# Altium footprint library MLACH0_9.PCBLIB: 97 footprints (part 3 of 7)
Each footprint in its own frame and in the unit in brackets; x right, y up, seen from the top. Pads: shape width x height; smd on the part's side, far side on the other; paste and mask are expansions set on the pad; w line width, h text height; cw(c..) or ccw(c..) is an arc to the next point about the centre after c.
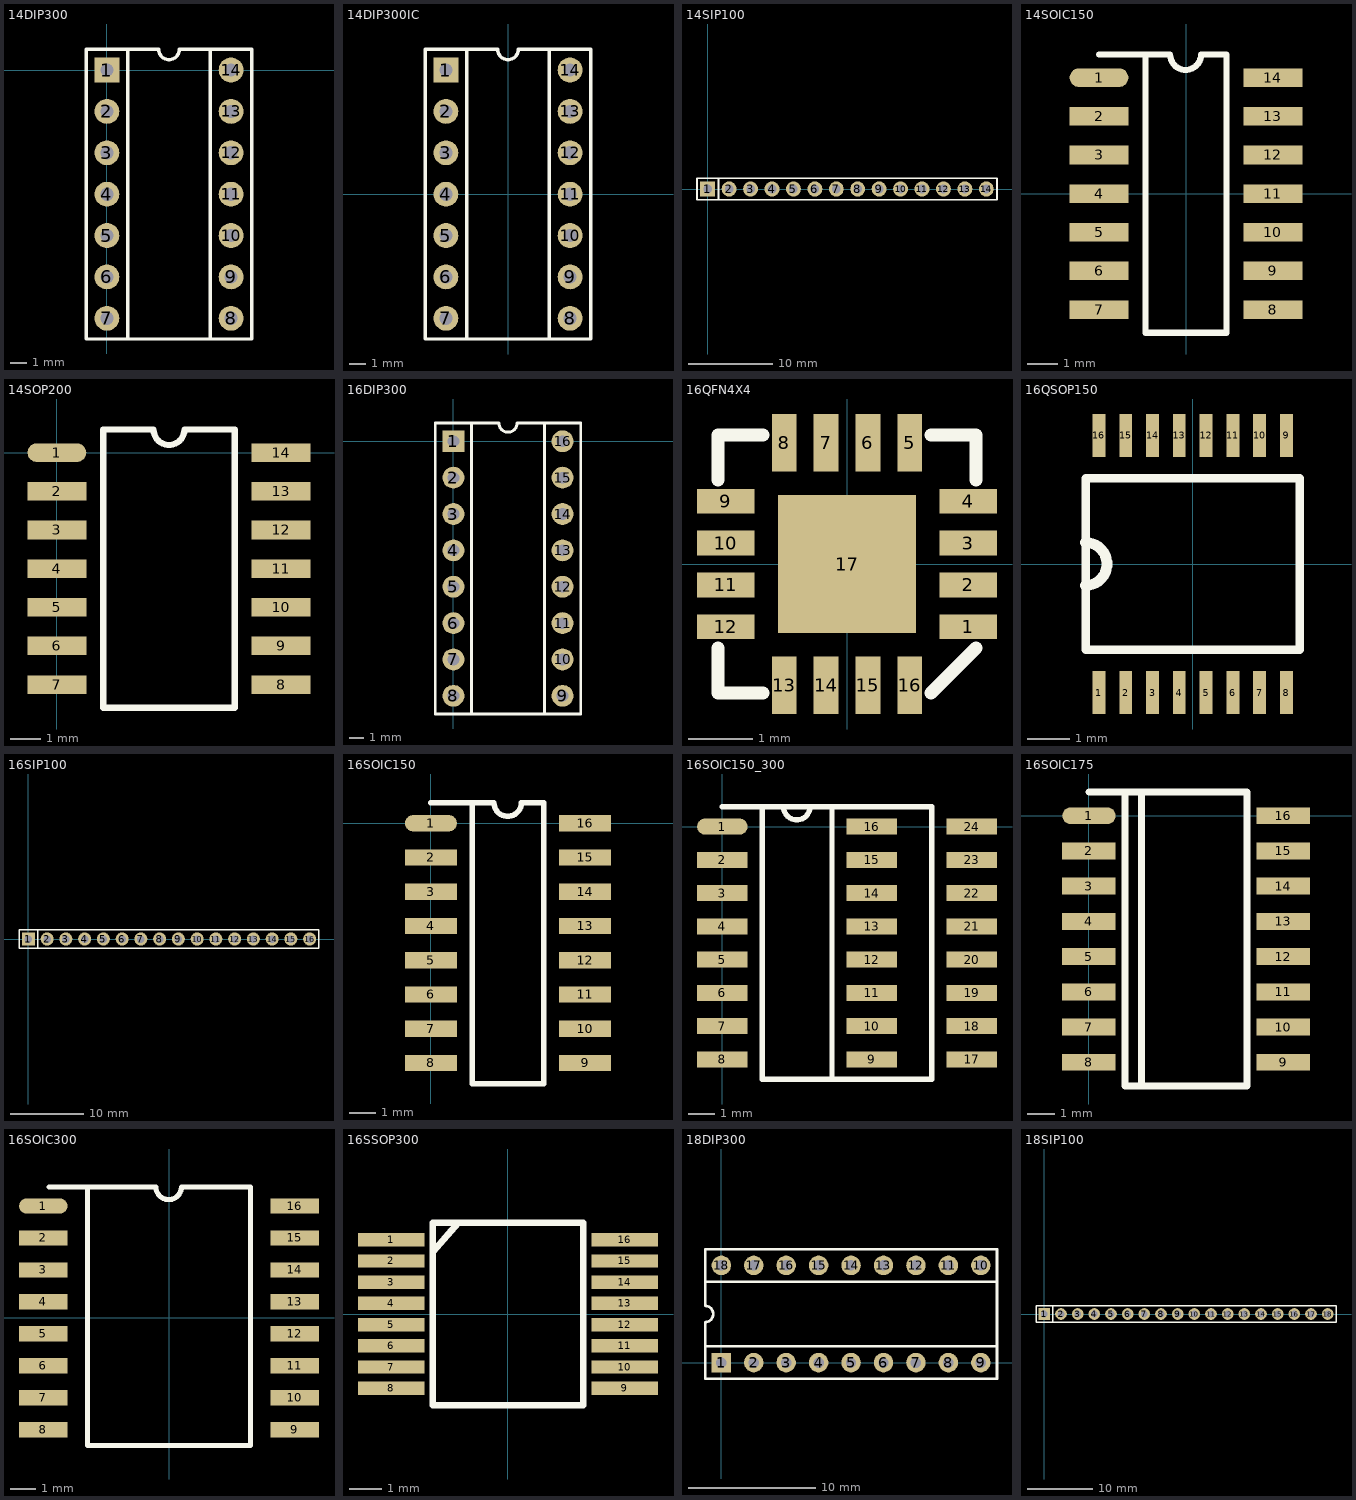
[diagram p2: the footprints below, top view; thin cyan lines are the x and y axes]

## 14DIP300 [mil]
pads (14):
  rect 60x60 hole 32: 1(0,0)
  round 60 hole 32: 2(0,-100) 3(0,-200) 4(0,-300) 5(0,-400) 6(0,-500) 7(0,-600) 8(300,-600) 9(300,-500) 10(300,-400) 11(300,-300) 12(300,-200) 13(300,-100) 14(300,0)
TopOverlay:
  lines w8: 50,-650 250,-650 ; 50,-650 50,50 ; 50,-650 -50,-650 -50,50 50,50 ; 50,50 125,50 ccw(c150,50) 175,50 250,50 ; 250,-650 250,50 ; 250,-650 350,-650 350,50 250,50
3D body: height 151.57, standoff -130.31, extent 0,-677.17 300,82.68

## 14DIP300IC [mil]
pads (14):
  rect 60x60 hole 32: 1(-150,300)
  round 60 hole 32: 2(-150,200) 3(-150,100) 4(-150,0) 5(-150,-100) 6(-150,-200) 7(-150,-300) 8(150,-300) 9(150,-200) 10(150,-100) 11(150,0) 12(150,100) 13(150,200) 14(150,300)
TopOverlay:
  lines w8: -100,-350 100,-350 ; -100,-350 -100,350 ; -100,-350 -200,-350 -200,350 -100,350 ; -100,350 -25,350 ccw(c0,350) 25,350 100,350 ; 100,-350 100,350 ; 100,-350 200,-350 200,350 100,350
3D body: height 314.96, standoff -110.24, extent -199.61,-381.89 199.61,377.95

## 14SIP100 [mil]
pads (14):
  rect 70x70 hole 40: 1(0,0)
  round 70 hole 40: 2(100,0) 3(200,0) 4(300,0) 5(400,0) 6(500,0) 7(600,0) 8(700,0) 9(800,0) 10(900,0) 11(1000,0) 12(1100,0) 13(1200,0) 14(1300,0)
TopOverlay:
  lines w8: 50,-50 50,50 ; -50,-50 1350,-50 1350,50 -50,50 -50,-50

## 14SOIC150 [mil]
pads (14):
  oval 76x24 smd: 1(-112.5,150)
  rect 76x24 smd: 2(-112.5,100) 3(-112.5,50) 4(-112.5,0) 5(-112.5,-50) 6(-112.5,-100) 7(-112.5,-150) 8(112.5,-150) 9(112.5,-100) 10(112.5,-50) 11(112.5,0) 12(112.5,50) 13(112.5,100) 14(112.5,150)
TopOverlay:
  lines w8: -112.5,180 -20.5,180 ccw(c-0.5,180) 19.5,180 52.5,180 52.5,-180 -52.5,-180 -52.5,180
3D body: height 66.93, standoff 0, extent -78.74,-172.83 78.74,173.43
3D body: height 31.5, standoff 0, extent -122.05,141.93 -78.74,157.68
3D body: height 31.5, standoff 0, extent -122.05,91.93 -78.74,107.68
3D body: height 31.5, standoff 0, extent -122.05,41.93 -78.74,57.68
3D body: height 31.5, standoff 0, extent -122.05,-8.07 -78.74,7.68
3D body: height 31.5, standoff 0, extent 78.74,-8.07 122.05,7.68
3D body: height 31.5, standoff 0, extent 78.74,41.93 122.05,57.68
3D body: height 31.5, standoff 0, extent 78.74,91.93 122.05,107.68
3D body: height 31.5, standoff 0, extent 78.74,141.93 122.05,157.68
3D body: height 31.5, standoff 0, extent 78.74,-58.07 122.05,-42.32
3D body: height 31.5, standoff 0, extent 78.74,-108.07 122.05,-92.32
3D body: height 31.5, standoff 0, extent 78.74,-158.07 122.05,-142.32
3D body: height 31.5, standoff 0, extent -122.05,-158.07 -78.74,-142.32
3D body: height 31.5, standoff 0, extent -122.05,-108.07 -78.74,-92.32
3D body: height 31.5, standoff 0, extent -122.05,-58.07 -78.74,-42.32

## 14SOP200 [mil]
pads (14):
  oval 76x24 smd: 1(0,0)
  rect 76x24 smd: 2(0,-50) 3(0,-100) 4(0,-150) 5(0,-200) 6(0,-250) 7(0,-300) 8(290,-300) 9(290,-250) 10(290,-200) 11(290,-150) 12(290,-100) 13(290,-50) 14(290,0)
TopOverlay:
  lines w8: 60,-330 60,30 125,30 ccw(c145,30) 165,30 230,30 230,-330 60,-330

## 16DIP300 [mil]
pads (16):
  rect 60x60 hole 32: 1(0,0)
  round 60 hole 32: 2(0,-100) 3(0,-200) 4(0,-300) 5(0,-400) 6(0,-500) 7(0,-600) 8(0,-700) 9(300,-700) 10(300,-600) 11(300,-500) 12(300,-400) 13(300,-300) 14(300,-200) 15(300,-100) 16(300,0)
TopOverlay:
  lines w8: 50,-750 250,-750 ; 50,-750 50,50 ; 50,-750 -50,-750 -50,50 50,50 ; 50,50 125,50 ccw(c150,50) 175,50 250,50 ; 250,-750 250,50 ; 250,-750 350,-750 350,50 250,50

## 16QFN4X4 [mil]
pads (17):
  rect 35x15 smd: 1(74,-38.39) 2(74,-12.79) 3(74,12.79) 4(74,38.39) 9(-74,38.39) 10(-74,12.79) 11(-74,-12.79) 12(-74,-38.39)
  rect 15x35 smd: 5(38.39,74) 6(12.79,74) 7(-12.79,74) 8(-38.39,74) 13(-38.39,-74) 14(-12.79,-74) 15(12.79,-74) 16(38.39,-74)
  rect 84x84 smd: 17(0,0)
TopOverlay:
  lines w8: -78.74,-51.18 -78.74,-78.74 -51.18,-78.74 ; -78.74,51.18 -78.74,78.74 -51.18,78.74 ; 51.18,-78.74 78.74,-51.18 ; 51.18,78.74 78.74,78.74 78.74,51.18

## 16QSOP150 [mil]
pads (16):
  rect 12x40 smd: 1(-87.5,-120) 2(-62.5,-120) 3(-37.5,-120) 4(-12.5,-120) 5(12.5,-120) 6(37.5,-120) 7(62.5,-120) 8(87.5,-120) 9(87.5,120) 10(62.5,120) 11(37.5,120) 12(12.5,120) 13(-12.5,120) 14(-37.5,120) 15(-62.5,120) 16(-87.5,120)
TopOverlay:
  lines w8: -100,-80 -100,80 100,80 100,-80 -100,-80
  lines w10: -100,-20 ccw(c-100,0) -100,20

## 16SIP100 [mil]
pads (16):
  rect 70x70 hole 40: 1(0,0)
  round 70 hole 40: 2(100,0) 3(200,0) 4(300,0) 5(400,0) 6(500,0) 7(600,0) 8(700,0) 9(800,0) 10(900,0) 11(1000,0) 12(1100,0) 13(1200,0) 14(1300,0) 15(1400,0) 16(1500,0)
TopOverlay:
  lines w8: 50,-50 50,50 ; -50,-50 1550,-50 1550,50 -50,50 -50,-50

## 16SOIC150 [mil]
pads (16):
  oval 76x24 smd: 1(0,0)
  rect 76x24 smd: 2(0,-50) 3(0,-100) 4(0,-150) 5(0,-200) 6(0,-250) 7(0,-300) 8(0,-350) 9(225,-350) 10(225,-300) 11(225,-250) 12(225,-200) 13(225,-150) 14(225,-100) 15(225,-50) 16(225,0)
TopOverlay:
  lines w8: 0,30 92,30 ccw(c112,30) 132,30 165,30 165,-380 60,-380 60,30
3D body: height 31.5, standoff 0, extent 191.24,-358.07 234.55,-342.32
3D body: height 31.5, standoff 0, extent -9.55,-358.07 33.76,-342.32
3D body: height 31.5, standoff 0, extent -9.55,-208.07 33.76,-192.32
3D body: height 31.5, standoff 0, extent -9.55,-258.07 33.76,-242.32
3D body: height 31.5, standoff 0, extent -9.55,-308.07 33.76,-292.32
3D body: height 31.5, standoff 0, extent 191.24,-308.07 234.55,-292.32
3D body: height 31.5, standoff 0, extent 191.24,-258.07 234.55,-242.32
3D body: height 31.5, standoff 0, extent 191.24,-208.07 234.55,-192.32
3D body: height 66.93, standoff 0, extent 33.76,-374.02 191.24,23.43
3D body: height 31.5, standoff 0, extent 191.24,-8.07 234.55,7.68
3D body: height 31.5, standoff 0, extent 191.24,-58.07 234.55,-42.32
3D body: height 31.5, standoff 0, extent 191.24,-108.07 234.55,-92.32
3D body: height 31.5, standoff 0, extent 191.24,-158.07 234.55,-142.32
3D body: height 31.5, standoff 0, extent -9.55,-158.07 33.76,-142.32
3D body: height 31.5, standoff 0, extent -9.55,-108.07 33.76,-92.32
3D body: height 31.5, standoff 0, extent -9.55,-58.07 33.76,-42.32
3D body: height 31.5, standoff 0, extent -9.55,-8.07 33.76,7.68

## 16SOIC150_300 [mil]
pads (24):
  oval 76x24 smd: 1(0,0)
  rect 76x24 smd: 2(0,-50) 3(0,-100) 4(0,-150) 5(0,-200) 6(0,-250) 7(0,-300) 8(0,-350) 9(225,-350) 10(225,-300) 11(225,-250) 12(225,-200) 13(225,-150) 14(225,-100) 15(225,-50) 16(225,0) 17(375,-350) 18(375,-300) 19(375,-250) 20(375,-200) 21(375,-150) 22(375,-100) 23(375,-50) 24(375,0)
TopOverlay:
  lines w8: 0,30 165,30 ; 60,30 60,-380 315,-380 315,30 165,30 ; 92,30 ccw(c112,30) 132,30 ; 165,-380 165,30

## 16SOIC175 [mil]
pads (16):
  oval 76x24 smd: 1(0,0)
  rect 76x24 smd: 2(0,-50) 3(0,-100) 4(0,-150) 5(0,-200) 6(0,-250) 7(0,-300) 8(0,-350) 9(275.59,-350) 10(275.59,-300) 11(275.59,-250) 12(275.59,-200) 13(275.59,-150) 14(275.59,-100) 15(275.59,-50) 16(275.59,0)
TopOverlay:
  lines w10: 0,33.46 224.41,33.46 224.41,-383.86 51.18,-383.86 51.18,33.47 ; 74.8,-381.89 74.8,31.5

## 16SOIC300 [mil]
pads (16):
  oval 76x24 smd: 1(-196.85,175)
  rect 76x24 smd: 2(-196.85,125) 3(-196.85,75) 4(-196.85,25) 5(-196.85,-25) 6(-196.85,-75) 7(-196.85,-125) 8(-196.85,-175) 9(196.85,-175) 10(196.85,-125) 11(196.85,-75) 12(196.85,-25) 13(196.85,25) 14(196.85,75) 15(196.85,125) 16(196.85,175)
TopOverlay:
  lines w8: -187.5,205 -20.5,205 ccw(c-0.5,205) 19.5,205 127.5,205 127.5,-200 -127.5,-200 -127.5,205
3D body: height 31.5, standoff 0, extent -197.05,166.93 -153.74,182.68
3D body: height 31.5, standoff 0, extent -197.05,116.93 -153.74,132.68
3D body: height 31.5, standoff 0, extent -197.05,66.93 -153.74,82.68
3D body: height 31.5, standoff 0, extent -197.05,16.93 -153.74,32.68
3D body: height 66.93, standoff 0, extent -153.74,-195.08 153.74,198.43
3D body: height 31.5, standoff 0, extent -197.05,-133.07 -153.74,-117.32
3D body: height 31.5, standoff 0, extent -197.05,-83.07 -153.74,-67.32
3D body: height 31.5, standoff 0, extent -197.05,-33.07 -153.74,-17.32
3D body: height 31.5, standoff 0, extent -197.05,-183.07 -153.74,-167.32
3D body: height 31.5, standoff 0, extent 153.74,-183.07 197.05,-167.32
3D body: height 31.5, standoff 0, extent 153.74,-33.07 197.05,-17.32
3D body: height 31.5, standoff 0, extent 153.74,-83.07 197.05,-67.32
3D body: height 31.5, standoff 0, extent 153.74,-133.07 197.05,-117.32
3D body: height 31.5, standoff 0, extent 153.74,16.93 197.05,32.68
3D body: height 31.5, standoff 0, extent 153.74,66.93 197.05,82.68
3D body: height 31.5, standoff 0, extent 153.74,116.93 197.05,132.68
3D body: height 31.5, standoff 0, extent 153.74,166.93 197.05,182.68

## 16SSOP300 [mil]
pads (16):
  rect 80x16 smd: 1(-140.75,89.57) 2(-140.75,63.98) 3(-140.75,38.39) 4(-140.75,12.8) 5(-140.75,-12.8) 6(-140.75,-38.39) 7(-140.75,-63.98) 8(-140.75,-89.57) 9(140.75,-89.57) 10(140.75,-63.98) 11(140.75,-38.39) 12(140.75,-12.8) 13(140.75,12.8) 14(140.75,38.39) 15(140.75,63.98) 16(140.75,89.57)
TopOverlay:
  lines w8: -90.55,75 -60,110 ; -90.55,-110 -90.55,110 90.55,110 90.55,-110 -90.55,-110

## 18DIP300 [mil]
pads (18):
  rect 60x60 hole 32: 1(0,0)
  round 60 hole 32: 2(100,0) 3(200,0) 4(300,0) 5(400,0) 6(500,0) 7(600,0) 8(700,0) 9(800,0) 10(800,300) 11(700,300) 12(600,300) 13(500,300) 14(400,300) 15(300,300) 16(200,300) 17(100,300) 18(0,300)
TopOverlay:
  lines w8: -50,50 -50,-50 850,-50 850,50 ; -50,50 850,50 ; -50,50 -50,125 ccw(c-50,150) -50,175 -50,250 ; -50,250 -50,350 850,350 850,250 ; -50,250 850,250 ; 850,50 850,250

## 18SIP100 [mil]
pads (18):
  rect 70x70 hole 40: 1(0,0)
  round 70 hole 40: 2(100,0) 3(200,0) 4(300,0) 5(400,0) 6(500,0) 7(600,0) 8(700,0) 9(800,0) 10(900,0) 11(1000,0) 12(1100,0) 13(1200,0) 14(1300,0) 15(1400,0) 16(1500,0) 17(1600,0) 18(1700,0)
TopOverlay:
  lines w8: 50,-50 50,50 ; -50,-50 1750,-50 1750,50 -50,50 -50,-50